# Altium schematic symbol library Connectors.SchLib: 28 symbols
Pins are listed as number, name and electrical type; pins without a type are passive.

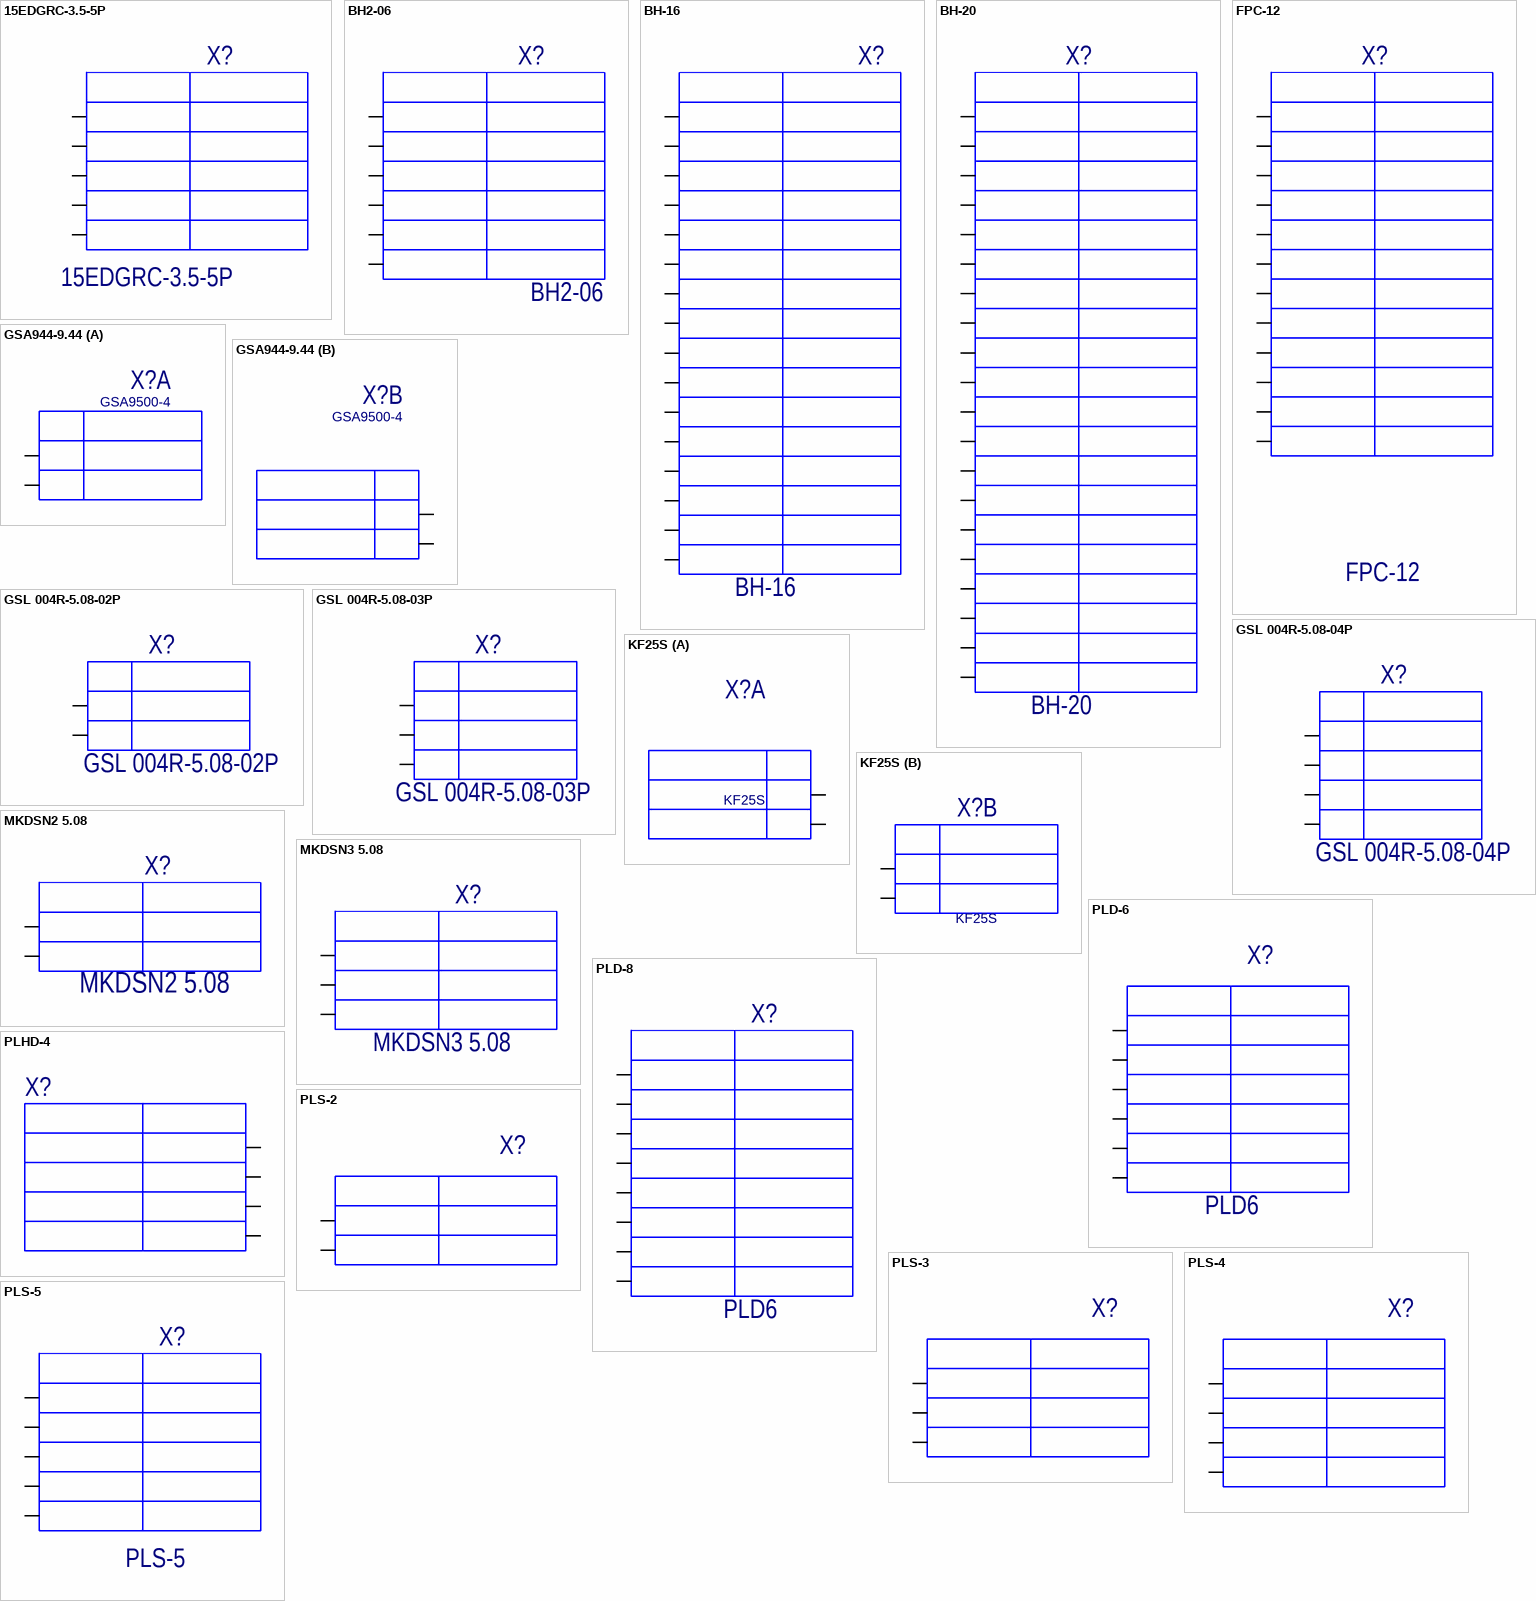
[diagram p0: symbols 15EDGRC-3.5-5P to PLS-5]

## 15EDGRC-3.5-5P
designator X?
ComponentDescription: 15EDGRC-3.5-5P
footprint 15EDGRC-3.5-5P
pins: 1, 2, 3, 4, 5

## BH2-06
designator X?
ComponentDescription: BH2-06
footprint BH2-06
pins: 1, 2, 3, 4, 5, 6

## BH-16
designator X?
ComponentDescription: BH-16
footprint BH-16
pins: 1, 2, 3, 4, 5, 6, 7, 8, 9, 10, 11, 12, 13, 14, 15, 16

## BH-20
designator X?
ComponentDescription: BH-20
footprint BH-20
pins: 1, 2, 3, 4, 5, 6, 7, 8, 9, 10, 11, 12, 13, 14, 15, 16, 17, 18, 19, 20

## FPC-12
designator X?
ComponentDescription: FPC-12
footprint FPC-12
pins: 1, 2, 3, 4, 5, 6, 7, 8, 9, 10, 11, 12

## GSA944-9.44
designator X?, comment GSA9500-4
GSA944-9.44; ComponentDescription: GSA9500-4
footprint GSA9500-4
part A pins: 1, 2
part B pins: 3, 4

## GSL 004R-5.08-02P
designator X?
ComponentDescription: GSL 004R-5.08-02P
footprint GSL 004R-5.08-02P
pins: 1, 2

## GSL 004R-5.08-03P
designator X?
ComponentDescription: GSL 004R-5.08-03P
footprint GSL 004R-5.08-03P
footprint GSL 004-5.08-03P
pins: 1, 2, 3

## GSL 004R-5.08-04P
designator X?
ComponentDescription: GSL 004R-5.08-04P
footprint GSL 004R-5.08-04P
footprint GSL 004-5.08-04P
pins: 1, 2, 3, 4

## KF25S
designator X?
ComponentDescription: KF25S
footprint KF25-4
part A pins: 1, 2
part B pins: 3, 4

## MKDSN2 5.08
designator X?
ComponentDescription: MKDSN2 5.08
footprint MKDSN2-5.08
pins: 1, 2

## MKDSN3 5.08
designator X?
ComponentDescription: MKDSN3 5.08
footprint MKDSN3-5.08
pins: 1, 2, 3

## PLD-6
designator X?, comment PLD6
ComponentDescription: PLD6
footprint PLD-6
pins: 1, 2, 3, 4, 5, 6

## PLD-8
designator X?, comment PLD6
ComponentDescription: PLD6
footprint PLD-8
pins: 1, 2, 3, 4, 5, 6, 7, 8

## PLHD-4
designator X?  (value not drawn)
ComponentDescription: PLHD-4
footprint PLHD-4
pins: 1, 2, 3, 4

## PLS-2
designator X?  (value not drawn)
ComponentDescription: PLS-2
footprint PLS-2
pins: 1, 2

## PLS-3
designator X?  (value not drawn)
ComponentDescription: PLS-3
footprint PLS-3
pins: 1, 2, 3

## PLS-4
designator X?  (value not drawn)
ComponentDescription: PLS-4
footprint PLS-4
pins: 1, 2, 3, 4

## PLS-5
designator X?
ComponentDescription: PLS-5
footprint PLS-5R
footprint PLS-5
pins: 1, 2, 3, 4, 5

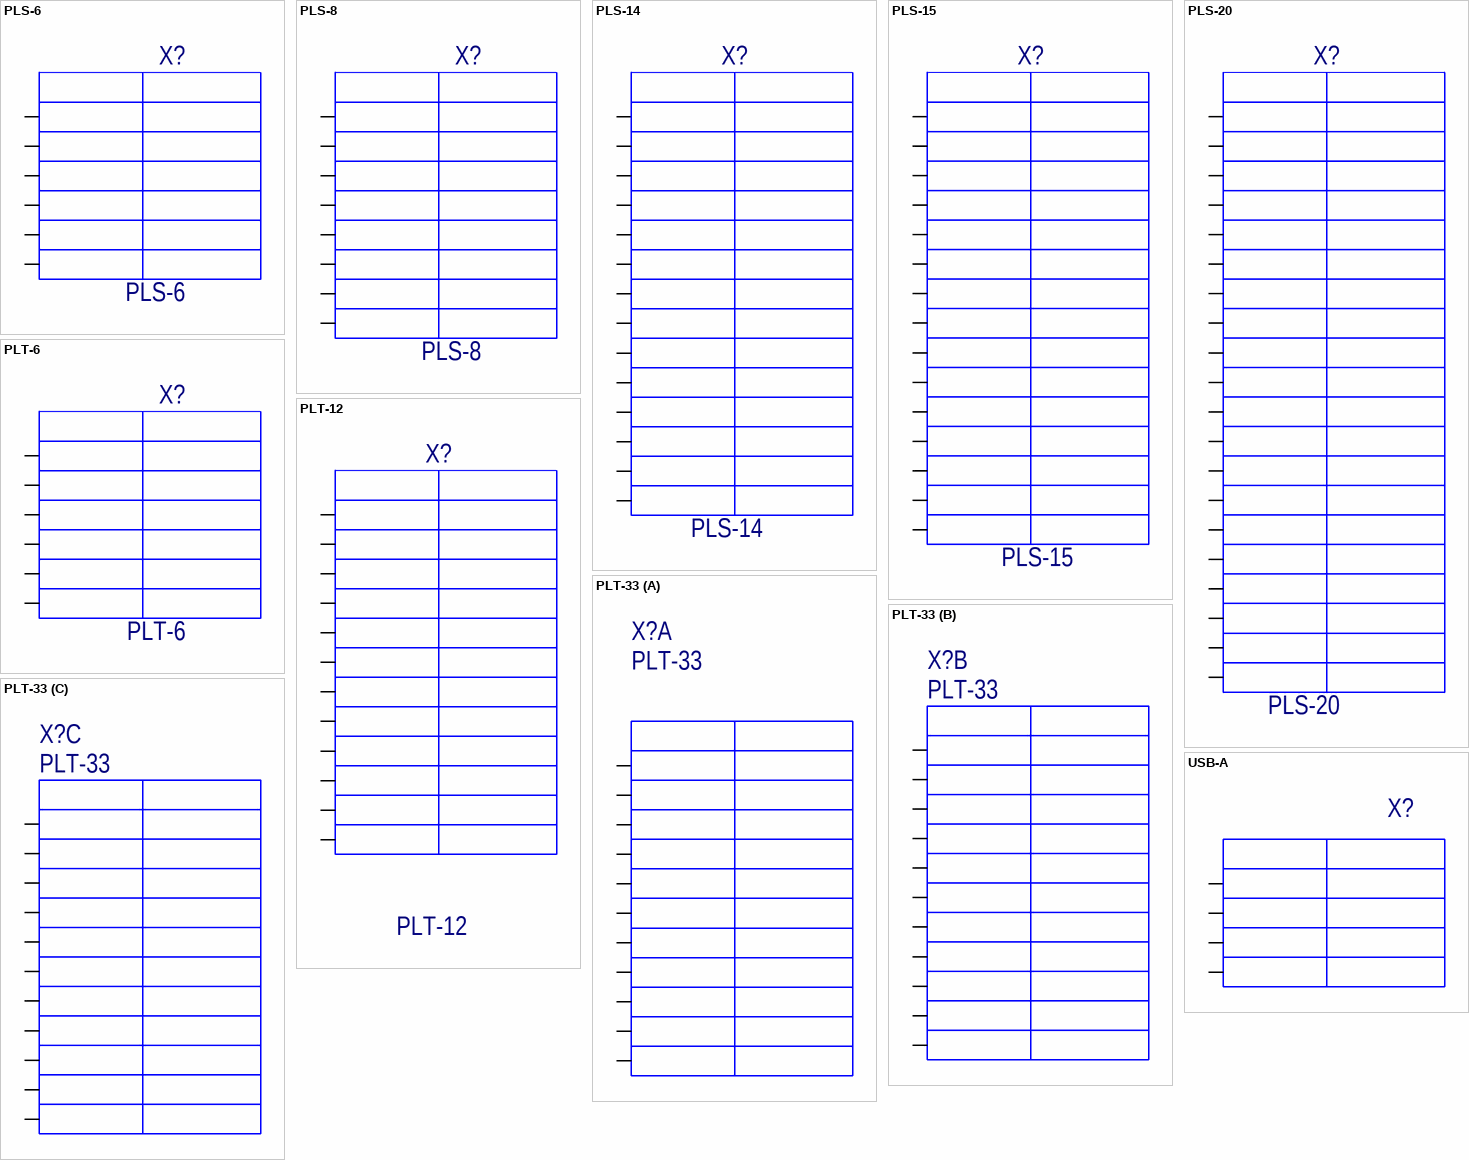
[diagram p1: symbols PLS-6 to USB-A]

## PLS-6
designator X?
ComponentDescription: PLS-6
footprint PLS-6
pins: 1, 2, 3, 4, 5, 6

## PLS-8
designator X?
ComponentDescription: PLS-8
footprint PLS-8
pins: 1, 2, 3, 4, 5, 6, 7, 8

## PLS-14
designator X?
ComponentDescription: PLS-14
footprint PLS-14
pins: 1, 2, 3, 4, 5, 6, 7, 8, 9, 10, 11, 12, 13, 14

## PLS-15
designator X?
ComponentDescription: PLS-15
footprint PLS-15
pins: 1, 2, 3, 4, 5, 6, 7, 8, 9, 10, 11, 12, 13, 14, 15

## PLS-20
designator X?
ComponentDescription: PLS-20
footprint PLS-20 (Footprint not found)
pins: 1, 2, 3, 4, 5, 6, 7, 8, 9, 10, 11, 12, 13, 14, 15, 16, 17, 18, 19, 20

## PLT-6
designator X?
ComponentDescription: PLT-6
footprint PLT-6
pins: 1, 2, 3, 4, 5, 6

## PLT-12
designator X?
ComponentDescription: PLT-12
footprint PLT-12
pins: 1, 2, 3, 4, 5, 6, 7, 8, 9, 10, 11, 12

## PLT-33
designator X?
ComponentDescription: PLT-33
footprint PLT-33
part A pins: 1, 2, 3, 4, 5, 6, 7, 8, 9, 10, 11
part B pins: 12, 13, 14, 15, 16, 17, 18, 19, 20, 21, 22
part C pins: 23, 24, 25, 26, 27, 28, 29, 30, 31, 32, 33

## USB-A
designator X?  (value not drawn)
ComponentDescription: USB-A
footprint USB-A
pins: 1, 2, 3, 4